# Altium schematic symbol library 1206 Capacitor.SchLib: 1 symbol
Pins are listed as number, name and electrical type; pins without a type are passive.

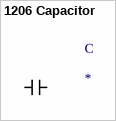
[diagram p0: symbol 1206 Capacitor]

## 1206 Capacitor
designator C
footprint 1206 Capacitor (Chip Capacitor, 2-Leads, Body 3.20x1.60mm, IPC Medium Density)
pins: 1, 2